# EAGLE library part RADIOMETRIX-MTX2 (library Ava)
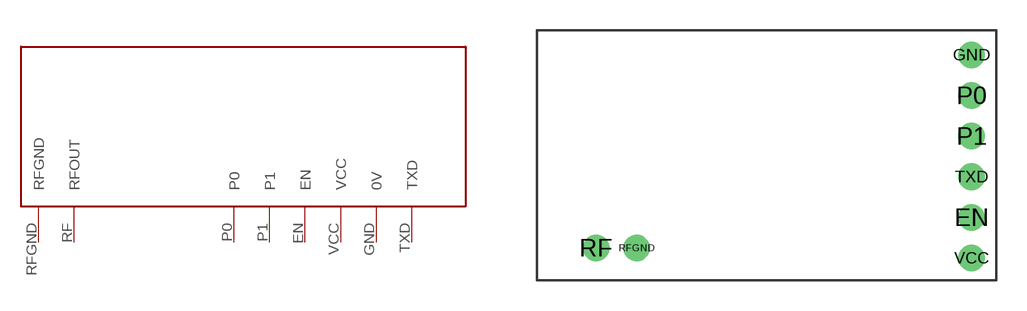
[diagram p29: symbol with the pads of RADIOMETRIX-MTX2; footprint RADIOMETRIX-MTX2]

Designator prefix -

## RADIOMETRIX-MTX2  [RADIOMETRIX-MTX2]
EN  EN
GND  0V
P0  P0
P1  P1
RF  RFOUT
RFGND  RFGND
TXD  TXD
VCC  VCC

## Footprint RADIOMETRIX-MTX2 (pad centres in mm)
drill 0.8: EN 9.97,-3.25; GND 9.97,4.75; P0 9.97,2.75; P1 9.97,0.75; RF -8.53,-4.75; RFGND -6.53,-4.75; TXD 9.97,-1.25; VCC 9.97,-5.25